# Altium footprint library PCB1.PcbLib: 8 footprints
Each footprint in its own frame and in the unit in brackets; x right, y up, seen from the top. Pads: shape width x height; smd on the part's side, far side on the other; paste and mask are expansions set on the pad; w line width, h text height; cw(c..) or ccw(c..) is an arc to the next point about the centre after c.
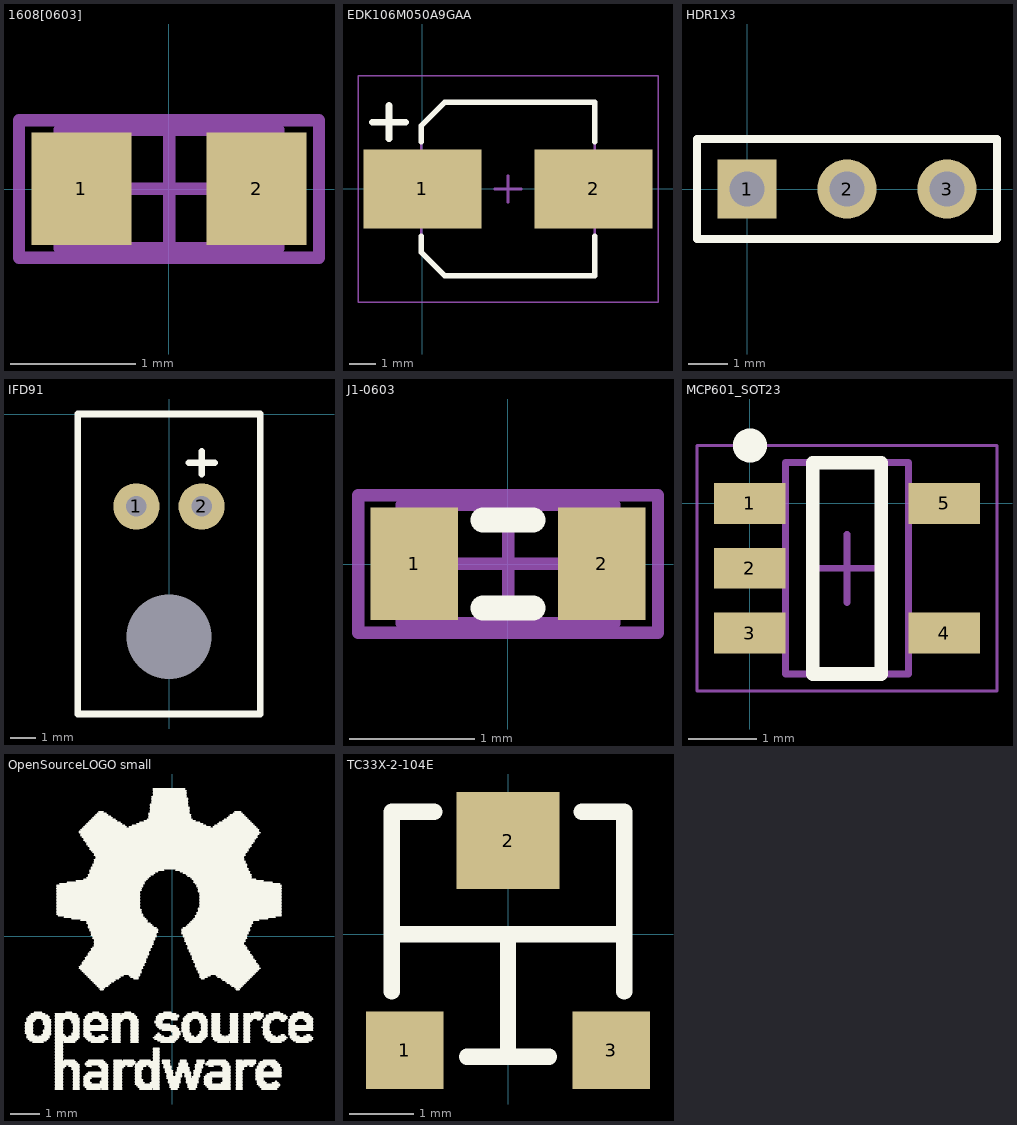
[diagram p0: the footprints below, top view; thin cyan lines are the x and y axes]

## 1608[0603] [mm] "Chip Capacitor, Body 1.6x0.8mm, IPC High Density"
height 1.3
pads (2):
  rect 0.8x0.9 smd: 1(-0.7,0) 2(0.7,0)
Mechanical 13:
  lines w0.1: -0.875,-0.475 -0.875,0.475 0.875,0.475 0.875,-0.475 -0.875,-0.475
Mechanical 15:
  lines w0.1: -0.475,0 0.475,0 ; 0,-0.475 0,0.475 ; -1.2,-0.55 -1.2,0.55 1.2,0.55 1.2,-0.55 -1.2,-0.55
3D body: height 1.3, standoff 0, extent -0.875,-0.475 0.875,0.475

## EDK106M050A9GAA [mm] "Aluminum Electrolytic Capacitor, Body 6,60x6,60x5,40mm, IPC Low Density"
height 5.4
pads (2):
  rect 4.5x3 smd: 1(0,0) 2(6.5,0)
Top Overlay:
  lines w0.2: -0.05,-1.8 -0.05,-2.4 0.85,-3.3 6.55,-3.3 6.55,-1.8 ; -0.05,1.8 -0.05,2.4 0.85,3.3 6.55,3.3 6.55,1.8
  lines w0.254: -1.905,2.54 -1.27,2.54 ; -1.27,1.905 -1.27,2.54 ; -1.27,3.175 -1.27,2.54 ; -0.635,2.54 -1.27,2.54
Mechanical 13:
  lines w0.1: -0.05,-2.4 -0.05,2.4 0.85,3.3 6.55,3.3 6.55,-3.3 0.85,-3.3 -0.05,-2.4
Mechanical 15:
  lines w0.05: -2.45,-4.3 8.95,-4.3 8.95,4.3 -2.45,4.3 -2.45,-4.3
  lines w0.1: 2.75,0 3.75,0 ; 3.25,-0.5 3.25,0.5
3D body: height 5.4, standoff 0, extent 0.1,-3.15 6.4,3.148
3D body: height 1.8, standoff 0, extent -0.05,-3.3 6.55,3.3

## HDR1X3 [mm] "Connector; Header; 3 Position"
pads (3):
  rect 1.5x1.5 hole 0.9: 1(0,0)
  round 1.5 hole 0.9: 2(2.54,0) 3(5.08,0)
Top Overlay:
  lines w0.2: -1.27,-1.27 -1.27,1.27 6.35,1.27 6.35,-1.27 -1.27,-1.27

## IFD91 [mm]
height 11
pads (3):
  round 0 hole 3.3: 0(0,-8.68)
  round 1.8 hole 0.8: 1(-1.27,-3.6) 2(1.27,-3.6)
Top Overlay:
  lines w0.254: 0.762,-1.905 1.27,-1.905 1.778,-1.905 ; 1.27,-2.349 1.27,-1.46 ; -3.556,-11.684 3.554,-11.684 3.555,-11.683 3.555,-6.349 3.555,0 -3.555,0 -3.555,-6.349 -3.555,-11.683 -3.556,-11.684

## J1-0603 [mm] "Chip Resistor, Body 1.6x0.8mm, IPC High Density"
height 0.9
pads (2):
  rect 0.7x0.9 smd: 1(-0.75,0) 2(0.75,0)
Top Overlay:
  lines w0.2: -0.2,-0.35 0.2,-0.35 ; -0.2,0.35 0.2,0.35
Mechanical 13:
  lines w0.1: -0.85,-0.475 0.85,-0.475 0.85,0.475 -0.85,0.475 -0.85,-0.475
Mechanical 15:
  lines w0.1: -0.475,0 0.475,0 ; 0,-0.475 0,0.475 ; -1.2,-0.55 1.2,-0.55 1.2,0.55 -1.2,0.55 -1.2,-0.55
3D body: height 0.9, standoff 0, extent -0.85,-0.475 0.85,0.475

## MCP601_SOT23 [mm] "SOT23, 5-Leads, Body 2,90x2,70mm, Pitch 0,95mm, IPC Medium Density"
height 1.45
pads (5):
  rect 1.05x0.6 smd: 1(0,0) 2(0,-0.95) 3(0,-1.9) 4(2.85,-1.9) 5(2.85,0)
Top Overlay:
  circle w0.25: c0,0.85 r0.125
  lines w0.2: 0.925,-2.5 1.925,-2.5 1.925,0.6 0.925,0.6 0.925,-2.5
Mechanical 13:
  lines w0.1: 0.525,-2.5 0.525,0.6 2.325,0.6 2.325,-2.5 0.525,-2.5
Mechanical 15:
  lines w0.05: -0.775,-2.75 -0.775,0.85 3.625,0.85 3.625,-2.75 -0.775,-2.75
  lines w0.1: 0.925,-0.95 1.925,-0.95 ; 1.425,-1.45 1.425,-0.45
3D body: height 1.45, standoff 0.05, extent 0.525,-2.5 2.325,0.6

## OpenSourceLOGO small [mm]
Top Overlay:
  drawing of 809 lines, arcs and shapes, not listed

## TC33X-2-104E [mm]
height 1.2
pads (3):
  rect 1.2x1.2 smd: 1(-1.6,-1.8) 3(1.6,-1.8)
  rect 1.6x1.5 smd: 2(0,1.45)
Top Overlay:
  lines w0.254: -1.8,-0.889 -1.8,1.9 -1.143,1.9 ; -1.8,0 1.8,0 ; -0.635,-1.9 0.635,-1.9 ; 0,-1.9 0,0 ; 1.143,1.9 1.8,1.9 1.8,-0.889